# EAGLE library part TP6 (library Sparky)
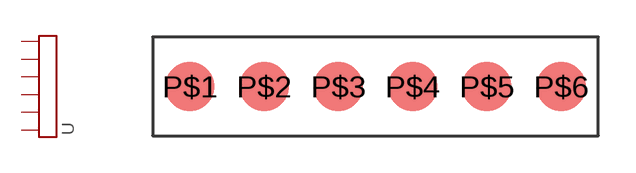
[diagram p20: symbol with the pads of TP6_2MM; footprint TP6_2MM]

Designator prefix -

## TP6  [TP6_2MM]
P$1  1
P$2  2
P$3  3
P$4  4
P$5  5
P$6  6

## Footprint TP6_2MM (pad centres in mm)
smd 2 x 2: P$1 -7.5,0; P$2 -4.5,0; P$3 -1.5,0; P$4 1.5,0; P$5 4.5,0; P$6 7.5,0